# Altium schematic symbol library LEDs.SchLib: 9 symbols
Pins are listed as number, name and electrical type; pins without a type are passive.

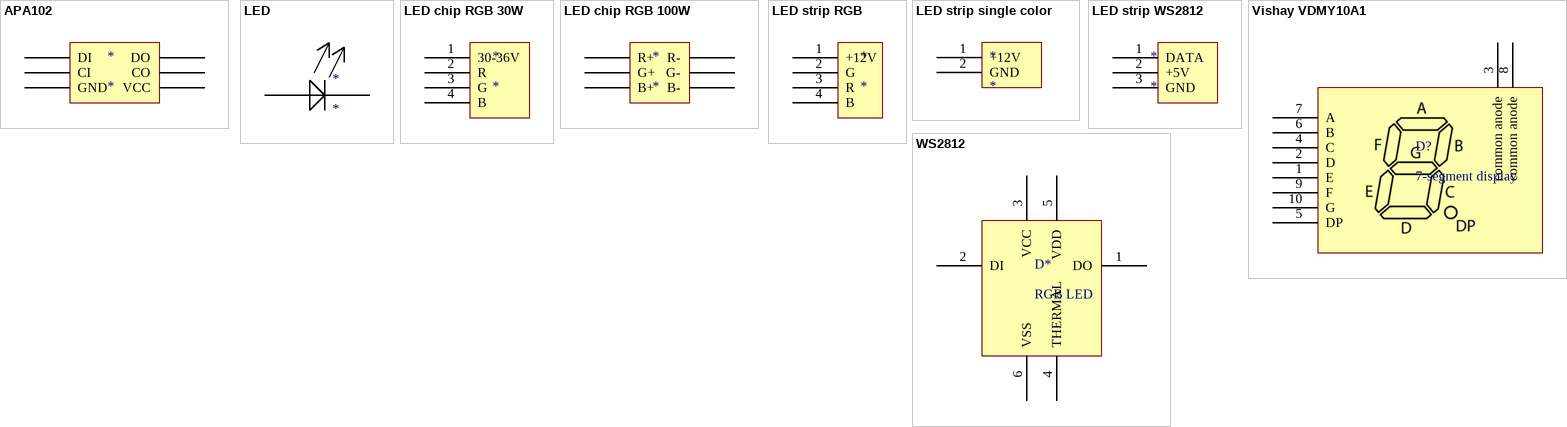
[diagram p0: symbols APA102 to WS2812]

## APA102
designator *
footprint LED SMD 5x5mm
pins: 1 DI, 2 CI, 3 GND, 4 VCC, 5 CO, 6 DO

## LED
designator *
pins: 1 +, 2 -

## LED chip RGB 30W
designator *
pins: 1 30-36V, 2 R, 3 G, 4 B

## LED chip RGB 100W
designator *
footprint LED Chip RGB 100W Cutout
pins: 1 R+, 2 G+, 3 B+, 4 B-, 5 G-, 6 R-

## LED strip RGB
designator *
footprint LED strip 4 pads
pins: 1 +12V, 2 G, 3 R, 4 B

## LED strip single color
designator *
footprint LED strip 2 pads
pins: 1 +12V, 2 GND

## LED strip WS2812
designator *
footprint LED strip 3 pads
pins: 1 DATA, 2 +5V, 3 GND

## Vishay VDMY10A1
designator D?, comment 7-segment display
7-segment display, SMD, yellow; Manufacturer: Vishay; Manufacturer Part Nr.: VDMY10A1; Supplier: DigiKey; DigiKey Part URL: https://www.digikey.de/product-detail/de/vishay-semiconductor-opto-division/VDMY10A1/VDMY10A1CT-ND/; DigiKey Part Nr.: VDMY10A1CT-ND
footprint Vishay VDMx10A1
pins: 1 E, 2 D, 3 common anode, 4 C, 5 DP, 6 B, 7 A, 8 common anode, 9 F, 10 G

## WS2812
designator D*, comment RGB LED
Addressable RGB LED; DigiKey URL: https://www.digikey.de/product-detail/de/sparkfun-electronics/COM-11821/1568-1800-ND/6163706; DigiKey Part Number: 1568-1800-ND
pins: 1 DO, 2 DI, 3 VCC, 4 THERMAL, 5 VDD, 6 VSS